# Altium integrated library ESP-WROOM-02D.IntLib: 1 symbol
Pins are listed as number, name and electrical type; pins without a type are passive.

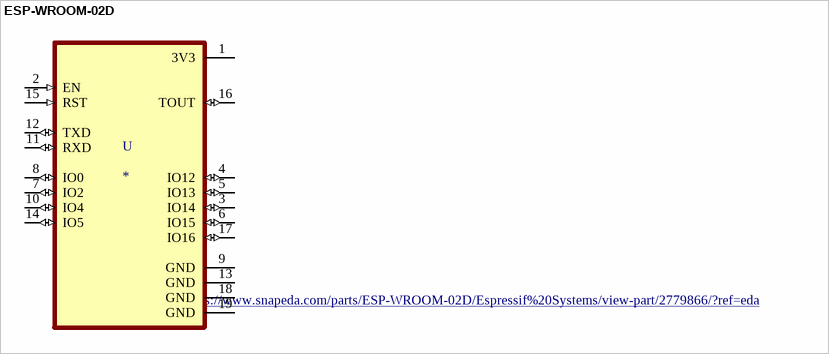
[diagram p0: symbol ESP-WROOM-02D]

## ESP-WROOM-02D
designator U
WiFi 802.11b/g/n Transceiver Module 2.4GHz ~ 2.5GHz Integrated, Trace Surface Mount; MF: Espressif Systems; MP: ESP-WROOM-02D; Value: *; SnapEDA_Link: https://www.snapeda.com/parts/ESP-WROOM-02D/Espressif%20Systems/view-part/2779866/?ref=snap; Availability: Unavailable; Price: None; Package: SMD-18 Espressif Systems; BuyPart: https://www.snapeda.com/parts/ESP-WROOM-02D/Espressif%20Systems/view-part/2779866/?ref=eda
footprint MODULE_ESP-WROOM-02D
pins: 1 3V3 (power), 2 EN (in), 3 IO14 (io), 4 IO12 (io), 5 IO13 (io), 6 IO15 (io), 7 IO2 (io), 8 IO0 (io), 9 GND (power), 10 IO4 (io), 11 RXD (io), 12 TXD (io), 13 GND (power), 14 IO5 (io), 15 RST (in), 16 TOUT (io), 17 IO16 (io), 18 GND (power), 19 GND (power)